# Altium footprint library LITTELFUSE_122_FUSE_CLIP.PcbLib: 1 footprints
Each footprint in its own frame and in the unit in brackets; x right, y up, seen from the top. Pads: shape width x height; smd on the part's side, far side on the other; paste and mask are expansions set on the pad; w line width, h text height; cw(c..) or ccw(c..) is an arc to the next point about the centre after c.
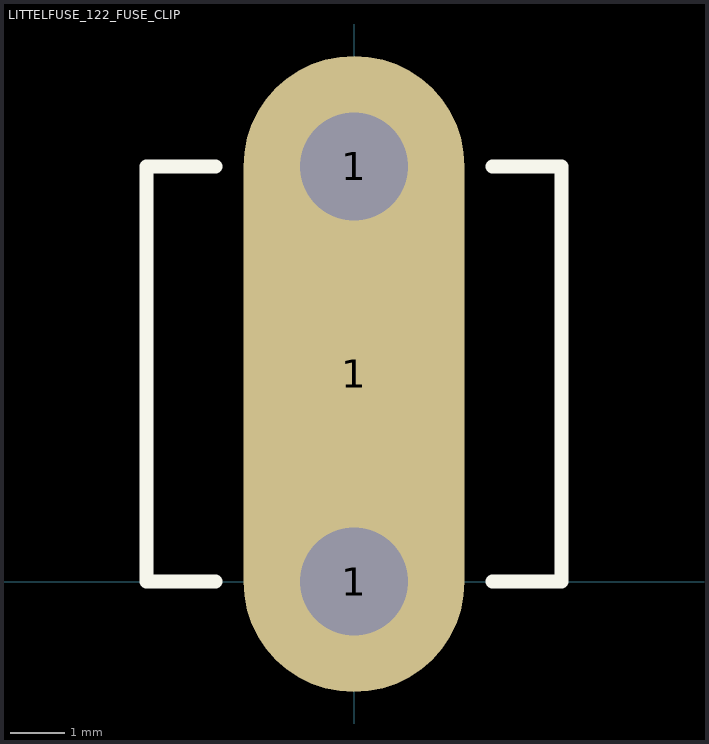
[diagram p0: the footprint, top view; thin cyan lines are the x and y axes]

## LITTELFUSE_122_FUSE_CLIP [mil] "Cartridge Fuse Clip, 1/4\" diameter, 01220093Z"
pads (3):
  round 160 hole 78: 1(0,0) 1(0,300)
  rect 160x300 all layers, no hole: 1(0,150)
Top Overlay:
  lines w10: -100,0 -150,0 -150,300 -100,300 ; 100,0 150,0 150,300 100,300